# Altium footprint library MAX30101.PcbLib: 1 footprints
Each footprint in its own frame and in the unit in brackets; x right, y up, seen from the top. Pads: shape width x height; smd on the part's side, far side on the other; paste and mask are expansions set on the pad; w line width, h text height; cw(c..) or ccw(c..) is an arc to the next point about the centre after c.
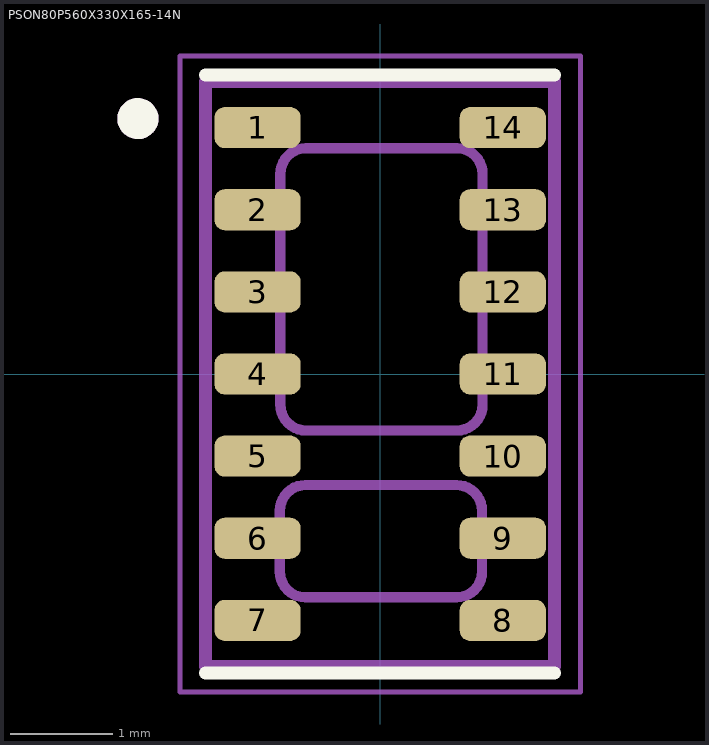
[diagram p0: the footprint, top view; thin cyan lines are the x and y axes]

## PSON80P560X330X165-14N [mm]
pads (14):
  rrect50% 0.84x0.4 smd: 1(-1.195,2.4) 2(-1.195,1.6) 3(-1.195,0.8) 4(-1.195,0) 5(-1.195,-0.8) 6(-1.195,-1.6) 7(-1.195,-2.4) 8(1.195,-2.4) 9(1.195,-1.6) 10(1.195,-0.8) 11(1.195,0) 12(1.195,0.8) 13(1.195,1.6) 14(1.195,2.4)
Top Overlay:
  circle w0.2: c-2.361,2.488 r0.1
  lines w0.127: -1.7,-2.914 1.7,-2.914 ; -1.7,2.914 1.7,2.914
Mechanical 13:
  circle w0.2: c-2.361,2.488 r0.1
  lines w0.1: -0.978,-1.926 ccw(c-0.728,-1.926) -0.728,-2.176 0.742,-2.176 ccw(c0.742,-1.926) 0.992,-1.926 0.992,-1.332 ccw(c0.742,-1.332) 0.742,-1.082 -0.728,-1.082 ccw(c-0.728,-1.332) -0.978,-1.332 -0.978,-1.926 ; -0.973,-0.3 ccw(c-0.723,-0.3) -0.723,-0.55 0.747,-0.55 ccw(c0.747,-0.3) 0.997,-0.3 0.997,1.95 ccw(c0.747,1.95) 0.747,2.2 -0.723,2.2 ccw(c-0.723,1.95) -0.973,1.95 -0.973,-0.3
  lines w0.127: -1.7,-2.85 -1.7,2.85 1.7,2.85 1.7,-2.85 -1.7,-2.85
Mechanical 15:
  lines w0.05: -1.95,-3.1 -1.95,3.1 1.95,3.1 1.95,-3.1 -1.95,-3.1